# EAGLE library part INA126 (library BME_Components)
Micropower Instrumentation Amplifier Single and Dual Versions, -40 to 85 degC, 8-pin DIP (P8), Green (RoHS & no Sb/Br)
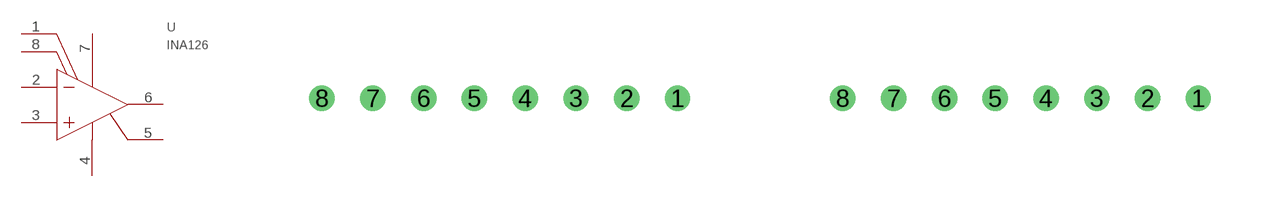
[diagram p14: symbol with the pads of INA126_D0008A_M; footprints INA126_D0008A_M, INA126_TI-P8]

Designator prefix U

## INA126INA126_INA126_D0008A_M (CMRR(MIN)(DB): 74; CODE_JEDEC: MS-001; COMPONENTLINK1DESCRIPTION: Manufacturer URL; COMPONENTLINK1URL: http://www.ti.com/; COMPONENTLINK2DESCRIPTION: Datasheet; COMPONENTLINK3DESCRIPTION: Package Specification; COMPONENTLINK3URL: http://www.ti.com/litv/pdf/mpdi001b; DATASHEETVERSION: SBOS062A; ECO-PLAN: Green (RoHS & no Sb/Br); GAIN(V/V): 5 to 10000; INPUT_BIAS_CURRENT_(+/-)(MAX)(NA): 50; INPUT_OFFSET_(+/-)(MAX)(UV): 500; INPUT_OFFSET_DRIFT_(+/-)(MAX)(UV/DEGREES_CELSIUS): 5; MANUFACTURER: Texas Instruments; MOUNTING_TECHNOLOGY: Through Hole; NOISE_AT_1KHZ(TYP)(NV/RT(HZ)): 35; NON-LINEARITY_(+/-)(MAX)(%): 0.012; NUMBER_OF_CHANNELS: 1; PACKAGEDESCRIPTION: 8-Pin Plastic In-Line, Body 9.59 x 6.35 mm, Pitch 2.54 mm; PACKAGEREFERENCE: P8; PACKAGEVERSION: 4040082/E, 04/2010; PARTNUMBER: INA126PA; QUIESCENT_CURRENT_(+/-)(TYP)(MA): 0.175; SUBFAMILY: Dual Supply; VS(MAX)(V): 36; VS(MIN)(V): 2.7)  [INA126_D0008A_M]
1  RG  in
2  VIN-  in
3  VIN+  in
4  V-  pwr
5  REF  in
6  VO  out
7  V+  pwr
8  RG  in

## INA126INA126_INA126_TI-P8 (CMRR(MIN)(DB): 74; CODE_JEDEC: MS-001; COMPONENTLINK1DESCRIPTION: Manufacturer URL; COMPONENTLINK1URL: http://www.ti.com/; COMPONENTLINK2DESCRIPTION: Datasheet; COMPONENTLINK3DESCRIPTION: Package Specification; COMPONENTLINK3URL: http://www.ti.com/litv/pdf/mpdi001b; DATASHEETVERSION: SBOS062A; ECO-PLAN: Green (RoHS & no Sb/Br); GAIN(V/V): 5 to 10000; INPUT_BIAS_CURRENT_(+/-)(MAX)(NA): 50; INPUT_OFFSET_(+/-)(MAX)(UV): 500; INPUT_OFFSET_DRIFT_(+/-)(MAX)(UV/DEGREES_CELSIUS): 5; MANUFACTURER: Texas Instruments; MOUNTING_TECHNOLOGY: Through Hole; NOISE_AT_1KHZ(TYP)(NV/RT(HZ)): 35; NON-LINEARITY_(+/-)(MAX)(%): 0.012; NUMBER_OF_CHANNELS: 1; PACKAGEDESCRIPTION: 8-Pin Plastic In-Line, Body 9.59 x 6.35 mm, Pitch 2.54 mm; PACKAGEREFERENCE: P8; PACKAGEVERSION: 4040082/E, 04/2010; PARTNUMBER: INA126PA; QUIESCENT_CURRENT_(+/-)(TYP)(MA): 0.175; SUBFAMILY: Dual Supply; VS(MAX)(V): 36; VS(MIN)(V): 2.7)  [INA126_TI-P8]
Pads as for INA126_D0008A_M

## Footprint INA126_D0008A_M (pad centres in mm)
drill 0.127 pad 0.254 round: 1 8.89,0; 2 7.62,0; 3 6.35,0; 4 5.08,0; 5 3.81,0; 6 2.54,0; 7 1.27,0; 8 0,0

## Footprint INA126_TI-P8 (pad centres in mm)
drill 0.127 pad 0.254 round: 1 8.89,0; 2 7.62,0; 3 6.35,0; 4 5.08,0; 5 3.81,0; 6 2.54,0; 7 1.27,0; 8 0,0